# Altium footprint library nxp-package.PcbLib: 24 footprints (part 1 of 2)
Each footprint in its own frame and in the unit in brackets; x right, y up, seen from the top. Pads: shape width x height; smd on the part's side, far side on the other; paste and mask are expansions set on the pad; w line width, h text height; cw(c..) or ccw(c..) is an arc to the next point about the centre after c.
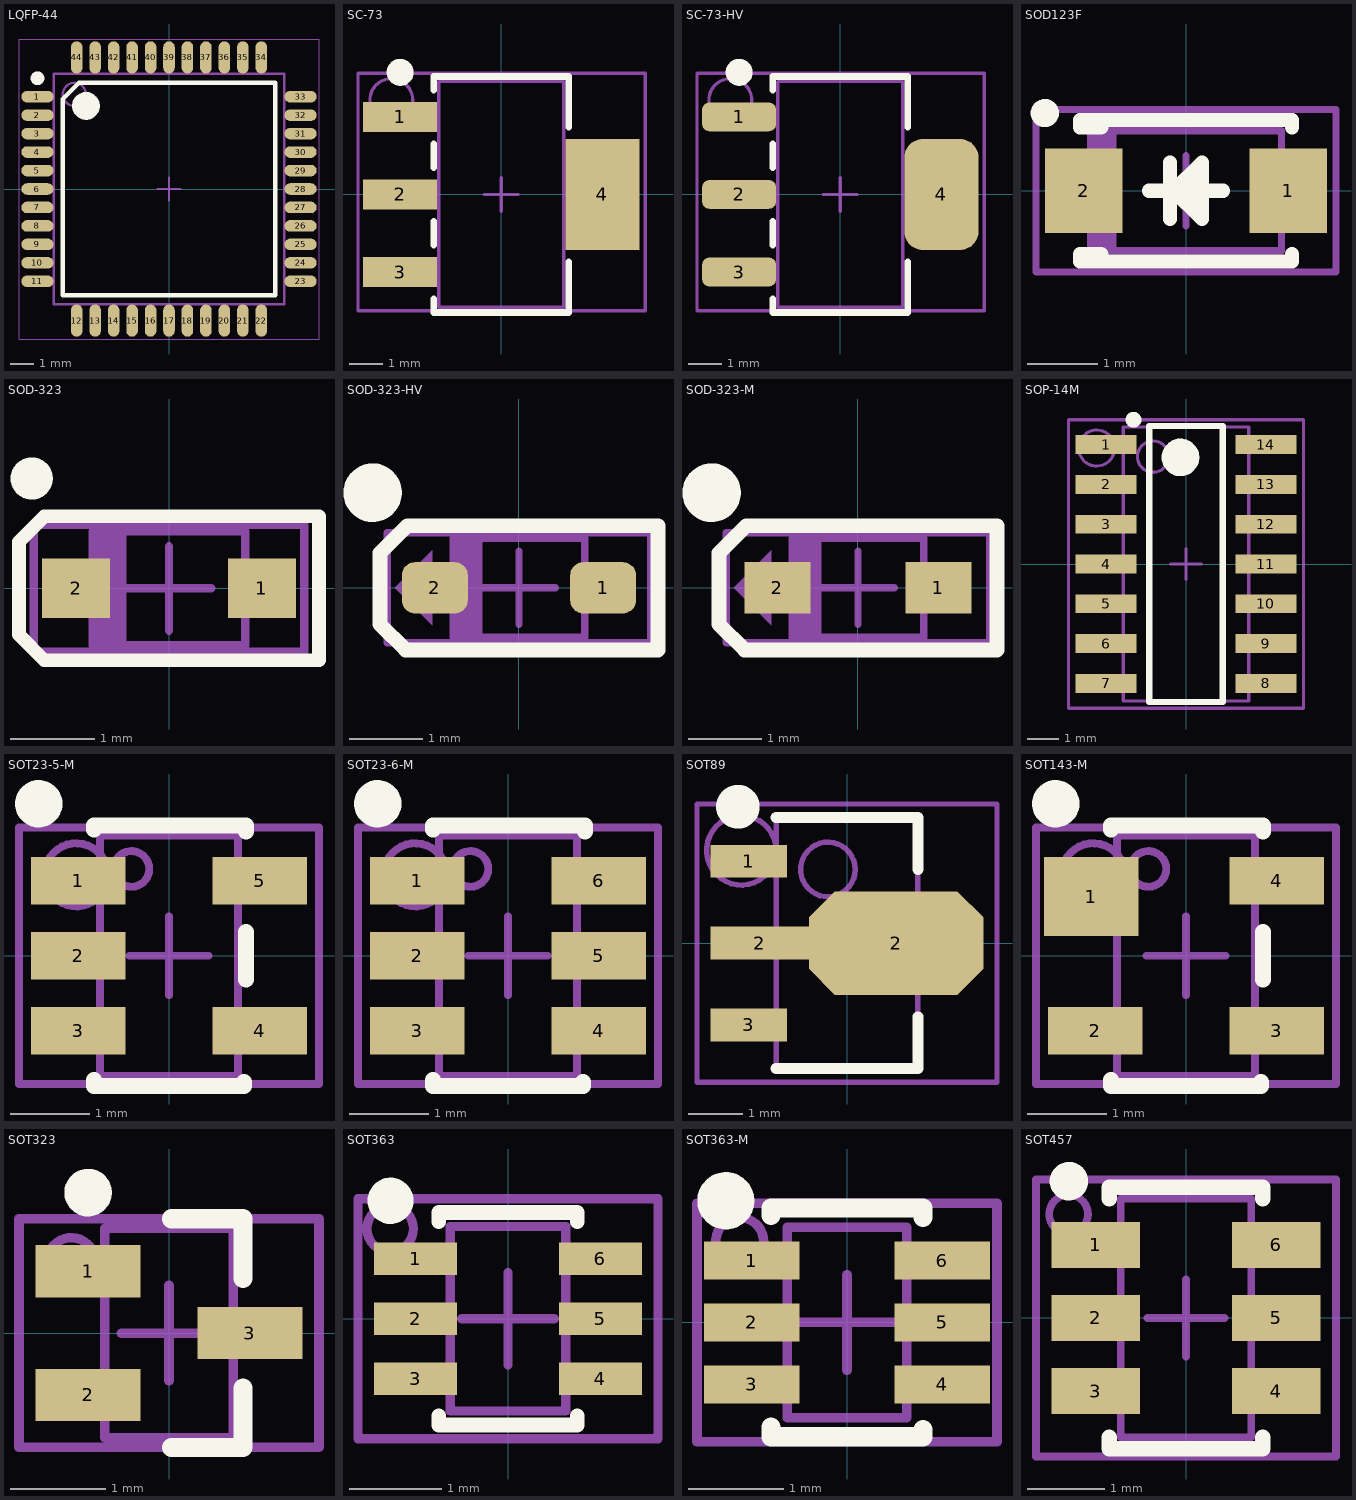
[diagram p0: the footprints below, top view; thin cyan lines are the x and y axes]

## LQFP-44 [mm] "TQFP, 44-Leads, Body 10.00x10.00mm, Pitch 0.80mm, IPC Medium Density"
height 1.6
pads (44):
  oval 1.4x0.5 smd: 1(-5.7,4) 2(-5.7,3.2) 3(-5.7,2.4) 4(-5.7,1.6) 5(-5.7,0.8) 6(-5.7,0) 7(-5.7,-0.8) 8(-5.7,-1.6) 9(-5.7,-2.4) 10(-5.7,-3.2) 11(-5.7,-4) 23(5.7,-4) 24(5.7,-3.2) 25(5.7,-2.4) 26(5.7,-1.6) 27(5.7,-0.8) 28(5.7,0) 29(5.7,0.8) 30(5.7,1.6) 31(5.7,2.4) 32(5.7,3.2) 33(5.7,4)
  oval 0.5x1.4 smd: 12(-4,-5.7) 13(-3.2,-5.7) 14(-2.4,-5.7) 15(-1.6,-5.7) 16(-0.8,-5.7) 17(0,-5.7) 18(0.8,-5.7) 19(1.6,-5.7) 20(2.4,-5.7) 21(3.2,-5.7) 22(4,-5.7) 34(4,5.7) 35(3.2,5.7) 36(2.4,5.7) 37(1.6,5.7) 38(0.8,5.7) 39(0,5.7) 40(-0.8,5.7) 41(-1.6,5.7) 42(-2.4,5.7) 43(-3.2,5.7) 44(-4,5.7)
Top Overlay:
  circle w0.3: c-5.7,4.8 r0.15
  circle w0.6: c-3.6,3.6 r0.3
  lines w0.2: -4.6,-4.6 -4.6,3.9 -3.9,4.6 4.6,4.6 4.6,-4.6 -4.6,-4.6
Mechanical 13:
  circle w0.1: c-4.1,4.1 r0.5
  lines w0.1: -0.5,0 0.5,0 ; 0,-0.5 0,0.5 ; -5,-5 -5,5 5,5 5,-5 -5,-5
Mechanical 15:
  lines w0.05: -6.5,-6.5 -6.5,6.5 6.5,6.5 6.5,-6.5 -6.5,-6.5
  text ".Designator" at -2.313,-1.654 h0.5
3D body "User Library-sot389-1.STEP": height 1.5, standoff -0.01, extent -6.038,-6.038 6.038,6.038

## SC-73 [mm] "SOT223, 4-Leads, Body 6.7x7.3mm (max), Pitch 2.30mm, IPC Medium Density"
height 1.8
pads (4):
  rect 2.2x0.9 smd: 1(-3,2.3) 2(-3,0) 3(-3,-2.3)
  rect 2.2x3.3 smd: 4(3,0)
Top Overlay:
  circle w0.4: c-3,3.625 r0.2
  lines w0.2: -2,-3.1 -2,-3.5 2,-3.5 2,-2 ; -2,-1.5 -2,-0.8 ; -2,0.8 -2,1.5 ; -2,3.1 -2,3.5 2,3.5 2,2
Mechanical 13:
  lines w0.1: -0.5,0 0.5,0 ; 0,-0.5 0,0.5 ; -1.85,-3.35 -1.85,3.35 1.85,3.35 1.85,-3.35 -1.85,-3.35
Mechanical 15:
  circle w0.1: c-3.261,2.8 r0.636
  lines w0.1: -4.25,-3.45 -4.25,3.6 4.275,3.6 4.275,-3.45 -4.25,-3.45
  text ".Designator" at -0.1,2.6 h0.5
3D body "SW3DPS-SOT-223-DEFAULT.step": height 1.66, standoff -0.02, extent -3.48,-3.25 3.48,3.25

## SC-73-HV [mm] "SOT223, 4-Leads, Body 6.7x7.3mm (max), Pitch 2.30mm, IPC High Voltage"
height 1.8
pads (4):
  rrect50% 2.2x0.85 smd: 1(-3,2.3) 2(-3,0) 3(-3,-2.3)
  rrect50% 2.2x3.3 smd: 4(3,0)
Top Overlay:
  circle w0.4: c-3,3.625 r0.2
  lines w0.2: -2,-3.1 -2,-3.5 2,-3.5 2,-2 ; -2,-1.5 -2,-0.8 ; -2,0.8 -2,1.5 ; -2,3.1 -2,3.5 2,3.5 2,2
Mechanical 13:
  lines w0.1: -0.5,0 0.5,0 ; 0,-0.5 0,0.5 ; -1.85,-3.35 1.85,-3.35 1.85,3.35 -1.85,3.35 -1.85,-3.35
Mechanical 15:
  circle w0.1: c-3.261,2.8 r0.636
  lines w0.1: -4.25,-3.45 4.275,-3.45 4.275,3.6 -4.25,3.6 -4.25,-3.45
  text ".Designator" at -0.1,2.6 h0.5
3D body "SW3DPS-SOT-223-DEFAULT.step": height 1.66, standoff -0.02, extent -3.48,-3.25 3.48,3.25

## SOD123F [mm] "Molded Diode, 2-Leads, Body 2.6x1.6mm, IPC Medium Density"
height 1.2
pads (2):
  rect 1.1x1.2 smd: 1(1.45,0) 2(-1.45,0)
Top Overlay:
  circle w0.2: c-2,1.1 r0.1
  lines w0.2: -1.2,-1 -1.2,-0.9 -1.5,-0.9 -1.5,-1 1.5,-1 1.5,-0.9 ; -1.2,1 -1.2,0.9 -1.5,0.9 -1.5,1 1.5,1 1.5,0.9 ; -0.525,0 -0.225,0 ; -0.225,-0.4 -0.225,0.4 ; 0.025,-0.15 0.025,0.15 ; 0.225,0 0.525,0 ; -0.175,0 0.225,-0.4 0.225,0.4 -0.175,0
Mechanical 13:
  rectangle: -1.35,-0.85 -0.987,0.85
  lines w0.1: -0.5,0 0.5,0 ; 0,-0.5 0,0.5 ; -1.35,-0.85 1.35,-0.85 1.35,0.85 -1.35,0.85 -1.35,-0.85
Mechanical 15:
  region: -1.5,-0.5 -2,0 -1.5,0.5
  lines w0.1: -2.125,-1.15 2.125,-1.15 2.125,1.15 -2.125,1.15 -2.125,-1.15
  text ".Designator" at -1,-0.3 h0.8
3D body "User Library-SOD123F.step": height 1.2, standoff -0.01, extent -1.9,-0.85 1.85,0.85

## SOD-323 [mm] "Molded Diode, 2-Leads"
height 0.7
pads (2):
  rect 0.8x0.7 smd: 1(1.1,0) 2(-1.1,0)
Top Overlay:
  circle w0.25: c-1.625,1.3 r0.125
  lines w0.16: -1.775,-0.55 -1.775,0.55 -1.475,0.85 1.775,0.85 1.775,-0.85 -1.475,-0.85 -1.775,-0.55
Mechanical 13:
  rectangle: -0.9,-0.675 -0.5,0.65
  lines w0.1: -0.5,0 0.5,0 ; 0,-0.5 0,0.5 ; -0.9,-0.675 -0.9,0.675 0.9,0.675 0.9,-0.675 -0.9,-0.675
Mechanical 15:
  region: -1.125,-0.325 -1.45,0 -1.125,0.325
  lines w0.1: -1.6,-0.75 -1.6,0.75 1.6,0.75 1.6,-0.75 -1.6,-0.75
  text ".Designator" at -0.875,-0.175 h0.5
3D body "User Library-SOD-323.step": height 1.1, standoff 0, extent -1.3,-0.675 1.3,0.675

## SOD-323-HV [mm] "Molded Diode, 2-Leads, Medium Density"
height 0.7
pads (2):
  rrect50% 0.9x0.7 smd: 1(1.15,0) 2(-1.15,0)
Top Overlay:
  circle w0.4: c-2,1.3 r0.2
  lines w0.2: -1.9,-0.5 -1.55,-0.85 1.9,-0.85 1.9,0.85 -1.525,0.85 -1.9,0.475 -1.9,-0.5
Mechanical 13:
  rectangle: -0.9,-0.675 -0.5,0.65
  lines w0.1: -0.5,0 0.5,0 ; 0,-0.5 0,0.5 ; -0.9,-0.675 0.9,-0.675 0.9,0.675 -0.9,0.675 -0.9,-0.675
Mechanical 15:
  region: -1.188,-0.512 -1.7,0 -1.187,0.513
  lines w0.1: -1.8,-0.75 1.8,-0.75 1.8,0.75 -1.8,0.75 -1.8,-0.75
  text ".Designator" at -1,-1.3 h0.9
3D body "User Library-SOD-323.step": height 1.1, standoff 0, extent -1.3,-0.675 1.3,0.675

## SOD-323-M [mm] "Molded Diode, 2-Leads, Medium Density"
height 0.7
pads (2):
  rect 0.9x0.7 smd: 1(1.1,0) 2(-1.1,0)
Top Overlay:
  circle w0.4: c-2,1.3 r0.2
  lines w0.2: -1.9,-0.5 -1.55,-0.85 1.9,-0.85 1.9,0.85 -1.525,0.85 -1.9,0.475 -1.9,-0.5
Mechanical 13:
  rectangle: -0.9,-0.675 -0.5,0.65
  lines w0.1: -0.5,0 0.5,0 ; 0,-0.5 0,0.5 ; -0.9,-0.675 0.9,-0.675 0.9,0.675 -0.9,0.675 -0.9,-0.675
Mechanical 15:
  region: -1.188,-0.512 -1.7,0 -1.187,0.513
  lines w0.1: -1.8,-0.75 1.8,-0.75 1.8,0.75 -1.8,0.75 -1.8,-0.75
  text ".Designator" at -1,-0.5 h0.9
3D body "User Library-SOD-323.step": height 1.1, standoff 0, extent -1.3,-0.675 1.3,0.675

## SOP-14M [mm] "SOP, 14-Leads, Body 8.8x4.0mm (max), Pitch 1.27mm, IPC Medium Density"
height 1.75
pads (14):
  rect 1.95x0.6 smd: 1(-2.55,3.81) 2(-2.55,2.54) 3(-2.55,1.27) 4(-2.55,0) 5(-2.55,-1.27) 6(-2.55,-2.54) 7(-2.55,-3.81) 8(2.55,-3.81) 9(2.55,-2.54) 10(2.55,-1.27) 11(2.55,0) 12(2.55,1.27) 13(2.55,2.54) 14(2.55,3.81)
Top Overlay:
  circle w0.25: c-1.675,4.6 r0.125
  circle w0.6: c-0.175,3.4 r0.3
  lines w0.2: -1.175,-4.4 -1.175,4.4 1.175,4.4 1.175,-4.4 -1.175,-4.4
Mechanical 13:
  circle w0.1: c-1.05,3.425 r0.5
  lines w0.1: -2,-4.375 -2,4.375 2,4.375 2,-4.375 -2,-4.375
Mechanical 15:
  circle w0.1: c-2.851,3.7 r0.576
  lines w0.1: -0.5,0 0.5,0 ; 0,-0.5 0,0.5 ; -3.75,-4.6 -3.75,4.6 3.75,4.6 3.75,-4.6 -3.75,-4.6
  text ".Designator" at 0.175,-1.575 h0.5
3D body: height 1.75, standoff 0.25, extent -2,-4.375 2,4.375

## SOT23-5-M [mm] "SOT23, 5-Leads, Body 3.0x3.0mm (max), Pitch 0.95mm, IPC Medium Density"
height 1.45
pads (5):
  rect 1.2x0.6 smd: 1(-1.15,0.95) 2(-1.15,0) 3(-1.15,-0.95) 4(1.15,-0.95) 5(1.15,0.95)
Top Overlay:
  circle w0.3: c-1.65,1.925 r0.15
  lines w0.2: -0.95,-1.575 -0.95,-1.65 0.95,-1.65 0.95,-1.6 ; -0.95,1.6 -0.95,1.65 0.975,1.65 0.975,1.575 ; 0.975,-0.3 0.975,0.3
Mechanical 13:
  circle w0.1: c-0.476,1.1 r0.226
  lines w0.1: -0.5,0 0.5,0 ; 0,-0.5 0,0.5 ; -0.875,-1.525 -0.875,1.525 0.875,1.525 0.875,-1.525 -0.875,-1.525
Mechanical 15:
  circle w0.1: c-1.175,1.025 r0.4
  lines w0.1: -1.9,-1.625 -1.9,1.625 1.9,1.625 1.9,-1.625 -1.9,-1.625
  text ".Designator" at -0.25,1.125 h0.5
3D body "SW3DPS-SOT-23-5-DEFAULT.STEP": height 1.09, standoff -0.01, extent -1.25,-1.5 1.25,1.5

## SOT23-6-M [mm] "SOT23, 6-Leads, Body 3.0x3.0mm (max), Pitch 0.95mm, IPC Medium Density"
height 1.45
pads (6):
  rect 1.2x0.6 smd: 1(-1.15,0.95) 2(-1.15,0) 3(-1.15,-0.95) 4(1.15,-0.95) 5(1.15,0) 6(1.15,0.95)
Top Overlay:
  circle w0.3: c-1.65,1.925 r0.15
  lines w0.2: -0.95,-1.575 -0.95,-1.65 0.95,-1.65 0.95,-1.6 ; -0.95,1.6 -0.95,1.65 0.975,1.65 0.975,1.575
Mechanical 13:
  circle w0.1: c-0.476,1.1 r0.226
  lines w0.1: -0.5,0 0.5,0 ; 0,-0.5 0,0.5 ; -0.875,-1.525 -0.875,1.525 0.875,1.525 0.875,-1.525 -0.875,-1.525
Mechanical 15:
  circle w0.1: c-1.175,1.025 r0.4
  lines w0.1: -1.9,-1.625 -1.9,1.625 1.9,1.625 1.9,-1.625 -1.9,-1.625
  text ".Designator" at -0.25,1.125 h0.5
3D body "User Library-sot236.step": height 1, standoff 0, extent -1.17,-1.46 1.17,1.46

## SOT89 [mm] "SOT89, 3-Leads, Body 4.5x2.5mm (max), Pitch 1.50mm, Lead Span 4.0mm, IPC Medium Density"
height 1.6
pads (4):
  rect 1.4x0.6 smd: 1(-1.8,1.5) 3(-1.8,-1.5)
  rect 1.8x0.6 smd: 2(-1.6,0)
  oct 3.2x1.9 smd: 2(0.9,0)
Top Overlay:
  circle w0.4: c-2,2.5 r0.2
  lines w0.2: -1.3,-2.3 1.3,-2.3 1.3,-1.35 ; -1.3,2.3 1.3,2.3 1.3,1.35
Mechanical 13:
  circle w0.1: c-0.35,1.35 r0.5
  lines w0.1: -0.5,0 0.5,0 ; 0,-0.5 0,0.5 ; -1.3,-2.3 1.3,-2.3 1.3,2.3 -1.3,2.3 -1.3,-2.3
Mechanical 15:
  circle w0.1: c-1.936,1.7 r0.636
  lines w0.1: -2.75,-2.55 2.75,-2.55 2.75,2.55 -2.75,2.55 -2.75,-2.55
  text ".Designator" at -0.2,1.5 h0.5
3D body "User Library-SOT89-3.STEP": height 1.54, standoff 0, extent -2.25,-2.25 2,2.25

## SOT143-M [mm] "SOT143, 4-Leads, Body 3.0x3.0mm (max), Pitch 0.95mm, IPC Medium Density"
height 1.45
pads (4):
  rect 1.2x1 smd: 1(-1.2,0.75)
  rect 1.2x0.6 smd: 2(-1.15,-0.95) 3(1.15,-0.95) 4(1.15,0.95)
Top Overlay:
  circle w0.3: c-1.65,1.925 r0.15
  lines w0.2: -0.95,-1.575 -0.95,-1.65 0.95,-1.65 0.95,-1.6 ; -0.95,1.6 -0.95,1.65 0.975,1.65 0.975,1.575 ; 0.975,-0.3 0.975,0.3
Mechanical 13:
  circle w0.1: c-0.476,1.1 r0.226
  lines w0.1: -0.5,0 0.5,0 ; 0,-0.5 0,0.5 ; -0.875,-1.525 0.875,-1.525 0.875,1.525 -0.875,1.525 -0.875,-1.525
Mechanical 15:
  circle w0.1: c-1.175,1.025 r0.4
  lines w0.1: -1.9,-1.625 1.9,-1.625 1.9,1.625 -1.9,1.625 -1.9,-1.625
  text ".Designator" at -0.25,1.125 h0.5
3D body "User Library-sot143-2.STEP": height 1, standoff 0, extent -1.21,-1.46 1.21,1.46

## SOT323 [mm] "SC-70/SOT323"
height 1
pads (3):
  rect 1.1x0.55 smd: 1(-0.85,0.65) 2(-0.85,-0.65) 3(0.85,0)
Top Overlay:
  circle w0.25: c-0.85,1.475 r0.125
  lines w0.2: 0.025,-1.2 0.775,-1.2 0.775,-0.575 ; 0.025,1.2 0.775,1.2 0.775,0.575
Mechanical 13:
  lines w0.1: -0.5,0 0.5,0 ; 0,-0.5 0,0.5 ; -0.675,-1.1 0.675,-1.1 0.675,1.1 -0.675,1.1 -0.675,-1.1
Mechanical 15:
  circle w0.1: c-1.026,0.75 r0.251
  lines w0.1: -1.575,-1.2 1.575,-1.2 1.575,1.2 -1.575,1.2 -1.575,-1.2
  text ".Designator" at -0.225,0.975 h0.5
3D body "User Library-SC-70.STEP": height 1.13, standoff 0.02, extent -1.125,-1.125 1.125,1.125

## SOT363 [mm] "6-Lead Plastic surface-mounted package, 0.65mm pitch, SOT363/SC-88"
height 1.1
pads (6):
  rect 0.9x0.35 smd: 1(-1,0.65) 2(-1,0) 3(-1,-0.65) 4(1,-0.65) 5(1,0) 6(1,0.65)
Top Overlay:
  circle w0.25: c-1.272,1.278 r0.125
  lines w0.16: -0.75,-1.05 -0.75,-1.15 0.75,-1.15 0.75,-1.05 ; -0.75,1.05 -0.75,1.15 0.75,1.15 0.75,1.05
Mechanical 13:
  lines w0.1: -0.5,0 0.5,0 ; 0,-0.5 0,0.5 ; -0.625,-1 -0.625,1 0.625,1 0.625,-1 -0.625,-1
Mechanical 15:
  circle w0.1: c-1.276,0.975 r0.251
  lines w0.1: -1.625,-1.3 -1.625,1.3 1.625,1.3 1.625,-1.3 -1.625,-1.3
  text ".Designator" at -0.2,1.125 h0.5
3D body "User Library-SW3dPS-SOT363.step": height 1.01, standoff 0.02, extent -1.05,-1 1.05,1

## SOT363-M [mm] "6-Lead Plastic surface-mounted package, 0.65mm pitch, SOT363/SC-88"
height 1.1
pads (6):
  rect 1x0.4 smd: 1(-1,0.65) 2(-1,0) 3(-1,-0.65) 4(1,-0.65) 5(1,0) 6(1,0.65)
Top Overlay:
  circle w0.3: c-1.272,1.278 r0.15
  lines w0.2: -0.8,-1.1 -0.8,-1.2 0.8,-1.2 0.8,-1.125 ; -0.8,1.125 -0.8,1.2 0.8,1.2 0.8,1.1
Mechanical 13:
  lines w0.1: -0.5,0 0.5,0 ; 0,-0.5 0,0.5 ; -0.625,-1 0.625,-1 0.625,1 -0.625,1 -0.625,-1
Mechanical 15:
  circle w0.1: c-1.126,0.85 r0.251
  lines w0.1: -1.575,-1.25 1.575,-1.25 1.575,1.25 -1.575,1.25 -1.575,-1.25
  text ".Designator" at -0.2,1.125 h0.5
3D body "User Library-SW3dPS-SOT363.step": height 1.01, standoff 0.02, extent -1.05,-1 1.05,1

## SOT457 [mm] "SOT23, 6-Leads, Body 3.1x3.0mm (max), Pitch 0.95mm, IPC Medium Density"
height 1.1
pads (6):
  rect 1.15x0.6 smd: 1(-1.175,0.95) 2(-1.175,0) 3(-1.175,-0.95) 4(1.175,-0.95) 5(1.175,0) 6(1.175,0.95)
Top Overlay:
  circle w0.25: c-1.522,1.778 r0.125
  lines w0.2: -1,-1.55 -1,-1.7 1,-1.7 1,-1.55 ; -1,1.55 -1,1.7 1,1.7 1,1.55
Mechanical 13:
  lines w0.1: -0.5,0 0.5,0 ; 0,-0.5 0,0.5 ; -0.85,-1.55 -0.85,1.55 0.85,1.55 0.85,-1.55 -0.85,-1.55
Mechanical 15:
  circle w0.1: c-1.526,1.35 r0.251
  lines w0.1: -1.95,-1.8 1.95,-1.8 1.95,1.8 -1.95,1.8 -1.95,-1.8
  text ".Designator" at -0.2,1.275 h0.5
3D body "User Library-sot236.step": height 1, standoff 0, extent -1.17,-1.46 1.17,1.46